# Altium schematic symbol library 1nF 1KV cap cer TH.SchLib: 1 symbol
Pins are listed as number, name and electrical type; pins without a type are passive.

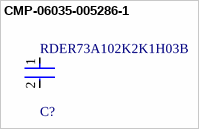
[diagram p0: symbol CMP-06035-005286-1]

## CMP-06035-005286-1
designator C?, comment RDER73A102K2K1H03B
Ceramic Capacitor 1nF ±10% 1kV X7R Radial; Lead Diameter: 0.5mm; Lead/Base Style: Formed Leads; Dielectric: X7R; Height - Seated (Max): 0.157inch; Max Operating Temperature: 125°C; Height: 4mm; Min Operating Temperature: -55°C; Package Quantity: 500; Length: 5.5mm; Lead Free: Lead Free; Mount: Through Hole; Resistor Type: Ceramic; Case/Package: Radial; Voltage Rating: 1kV; Termination: Radial; Lead Pitch: 0.197inch; Tolerance: 10%; Capacitance: 1nF; Voltage Rating (DC): 1kV; Width: 0.124inch; Packaging: Bulk
footprint FP-RDE2M1-MFG
pins: 1, 2